# EAGLE library part MK64FN1M0VLL12 (library mbed-HDK)
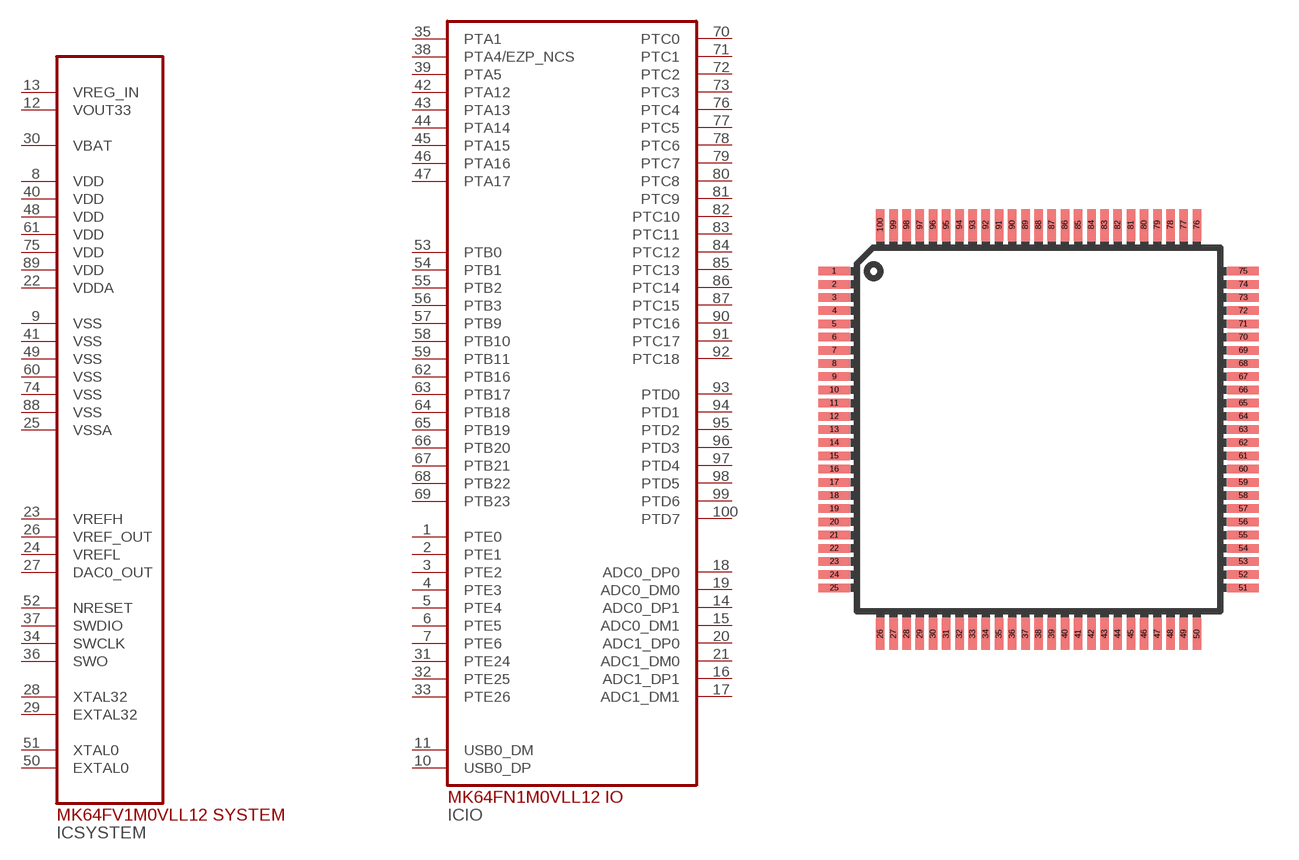
[diagram p20: symbol with the pads of LQFP100; footprint LQFP100]

Designator prefix IC; gates IO=MK64FN1M0VLL12-IO SYSTEM=MK64FN1M0VLL12-SYSTEM

## MK64FN1M0VLL12  [LQFP100]
1  IO:PTE0
2  IO:PTE1
3  IO:PTE2
4  IO:PTE3
5  IO:PTE4
6  IO:PTE5
7  IO:PTE6
8  SYSTEM:VDD
9  SYSTEM:VSS
10  IO:USB0_DP
11  IO:USB0_DM
12  SYSTEM:VOUT33
13  SYSTEM:VREG_IN
14  IO:ADC0_DP1
15  IO:ADC0_DM1
16  IO:ADC1_DP1
17  IO:ADC1_DM1
18  IO:ADC0_DP0
19  IO:ADC0_DM0
20  IO:ADC1_DP0
21  IO:ADC1_DM0
22  SYSTEM:VDDA
23  SYSTEM:VREFH
24  SYSTEM:VREFL
25  SYSTEM:VSSA
26  SYSTEM:VREF_OUT
27  SYSTEM:DAC0_OUT
28  SYSTEM:XTAL32
29  SYSTEM:EXTAL32
30  SYSTEM:VBAT
31  IO:PTE24
32  IO:PTE25
33  IO:PTE26
34  SYSTEM:SWCLK
35  IO:PTA1
36  SYSTEM:SWO
37  SYSTEM:SWDIO
38  IO:PTA4/EZP_NCS
39  IO:PTA5
40  SYSTEM:VDD
41  SYSTEM:VSS
42  IO:PTA12
43  IO:PTA13
44  IO:PTA14
45  IO:PTA15
46  IO:PTA16
47  IO:PTA17
48  SYSTEM:VDD
49  SYSTEM:VSS
50  SYSTEM:EXTAL0
51  SYSTEM:XTAL0
52  SYSTEM:NRESET
53  IO:PTB0
54  IO:PTB1
55  IO:PTB2
56  IO:PTB3
57  IO:PTB9
58  IO:PTB10
59  IO:PTB11
60  SYSTEM:VSS
61  SYSTEM:VDD
62  IO:PTB16
63  IO:PTB17
64  IO:PTB18
65  IO:PTB19
66  IO:PTB20
67  IO:PTB21
68  IO:PTB22
69  IO:PTB23
70  IO:PTC0
71  IO:PTC1
72  IO:PTC2
73  IO:PTC3
74  SYSTEM:VSS
75  SYSTEM:VDD
76  IO:PTC4
77  IO:PTC5
78  IO:PTC6
79  IO:PTC7
80  IO:PTC8
81  IO:PTC9
82  IO:PTC10
83  IO:PTC11
84  IO:PTC12
85  IO:PTC13
86  IO:PTC14
87  IO:PTC15
88  SYSTEM:VSS
89  SYSTEM:VDD
90  IO:PTC16
91  IO:PTC17
92  IO:PTC18
93  IO:PTD0
94  IO:PTD1
95  IO:PTD2
96  IO:PTD3
97  IO:PTD4
98  IO:PTD5
99  IO:PTD6
100  IO:PTD7

## Footprint LQFP100 (pad centres in mm)
smd 1.2 x 0.32: 1 -7.75,6; 2 -7.75,5.5; 3 -7.75,5; 4 -7.75,4.5; 5 -7.75,4; 6 -7.75,3.5; 7 -7.75,3; 8 -7.75,2.5; 9 -7.75,2; 10 -7.75,1.5; 11 -7.75,1; 12 -7.75,0.5; 13 -7.75,0; 14 -7.75,-0.5; 15 -7.75,-1; 16 -7.75,-1.5; 17 -7.75,-2; 18 -7.75,-2.5; 19 -7.75,-3; 20 -7.75,-3.5; 21 -7.75,-4; 22 -7.75,-4.5; 23 -7.75,-5; 24 -7.75,-5.5; 25 -7.75,-6; 51 7.75,-6; 52 7.75,-5.5; 53 7.75,-5; 54 7.75,-4.5; 55 7.75,-4; 56 7.75,-3.5; 57 7.75,-3; 58 7.75,-2.5; 59 7.75,-2; 60 7.75,-1.5; 61 7.75,-1; 62 7.75,-0.5; 63 7.75,0; 64 7.75,0.5; 65 7.75,1; 66 7.75,1.5; 67 7.75,2; 68 7.75,2.5; 69 7.75,3; 70 7.75,3.5; 71 7.75,4; 72 7.75,4.5; 73 7.75,5; 74 7.75,5.5; 75 7.75,6
smd 0.32 x 1.2: 26 -6,-7.75; 27 -5.5,-7.75; 28 -5,-7.75; 29 -4.5,-7.75; 30 -4,-7.75; 31 -3.5,-7.75; 32 -3,-7.75; 33 -2.5,-7.75; 34 -2,-7.75; 35 -1.5,-7.75; 36 -1,-7.75; 37 -0.5,-7.75; 38 0,-7.75; 39 0.5,-7.75; 40 1,-7.75; 41 1.5,-7.75; 42 2,-7.75; 43 2.5,-7.75; 44 3,-7.75; 45 3.5,-7.75; 46 4,-7.75; 47 4.5,-7.75; 48 5,-7.75; 49 5.5,-7.75; 50 6,-7.75; 76 6,7.75; 77 5.5,7.75; 78 5,7.75; 79 4.5,7.75; 80 4,7.75; 81 3.5,7.75; 82 3,7.75; 83 2.5,7.75; 84 2,7.75; 85 1.5,7.75; 86 1,7.75; 87 0.5,7.75; 88 0,7.75; 89 -0.5,7.75; 90 -1,7.75; 91 -1.5,7.75; 92 -2,7.75; 93 -2.5,7.75; 94 -3,7.75; 95 -3.5,7.75; 96 -4,7.75; 97 -4.5,7.75; 98 -5,7.75; 99 -5.5,7.75; 100 -6,7.75